# EAGLE library part PORT_EXP (library fem_header)
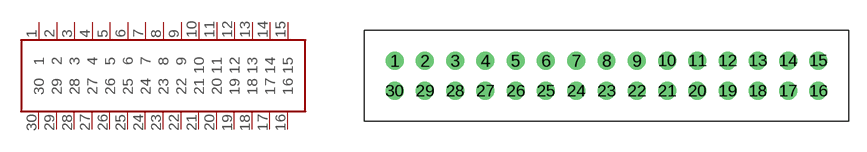
[diagram p1: symbol with the pads of PORT_EXP; footprint PORT_EXP]

Designator prefix -

## PORT_EXP  [PORT_EXP]
1  1
2  2
3  3
4  4
5  5
6  6
7  7
8  8
9  9
10  10
11  11
12  12
13  13
14  14
15  15
16  16
17  17
18  18
19  19
20  20
21  21
22  22
23  23
24  24
25  25
26  26
27  27
28  28
29  29
30  30

## Footprint PORT_EXP (pad centres in mm)
drill 1: 1 -25.4,5.08; 2 -22.86,5.08; 3 -20.32,5.08; 4 -17.78,5.08; 5 -15.24,5.08; 6 -12.7,5.08; 7 -10.16,5.08; 8 -7.62,5.08; 9 -5.08,5.08; 10 -2.54,5.08; 11 0,5.08; 12 2.54,5.08; 13 5.08,5.08; 14 7.62,5.08; 15 10.16,5.08; 16 10.16,2.54; 17 7.62,2.54; 18 5.08,2.54; 19 2.54,2.54; 20 0,2.54; 21 -2.54,2.54; 22 -5.08,2.54; 23 -7.62,2.54; 24 -10.16,2.54; 25 -12.7,2.54; 26 -15.24,2.54; 27 -17.78,2.54; 28 -20.32,2.54; 29 -22.86,2.54; 30 -25.4,2.54